# Altium integrated library Texas Instruments Power Management PWM Controller.IntLib: 1227 symbols (part 44 of 49)
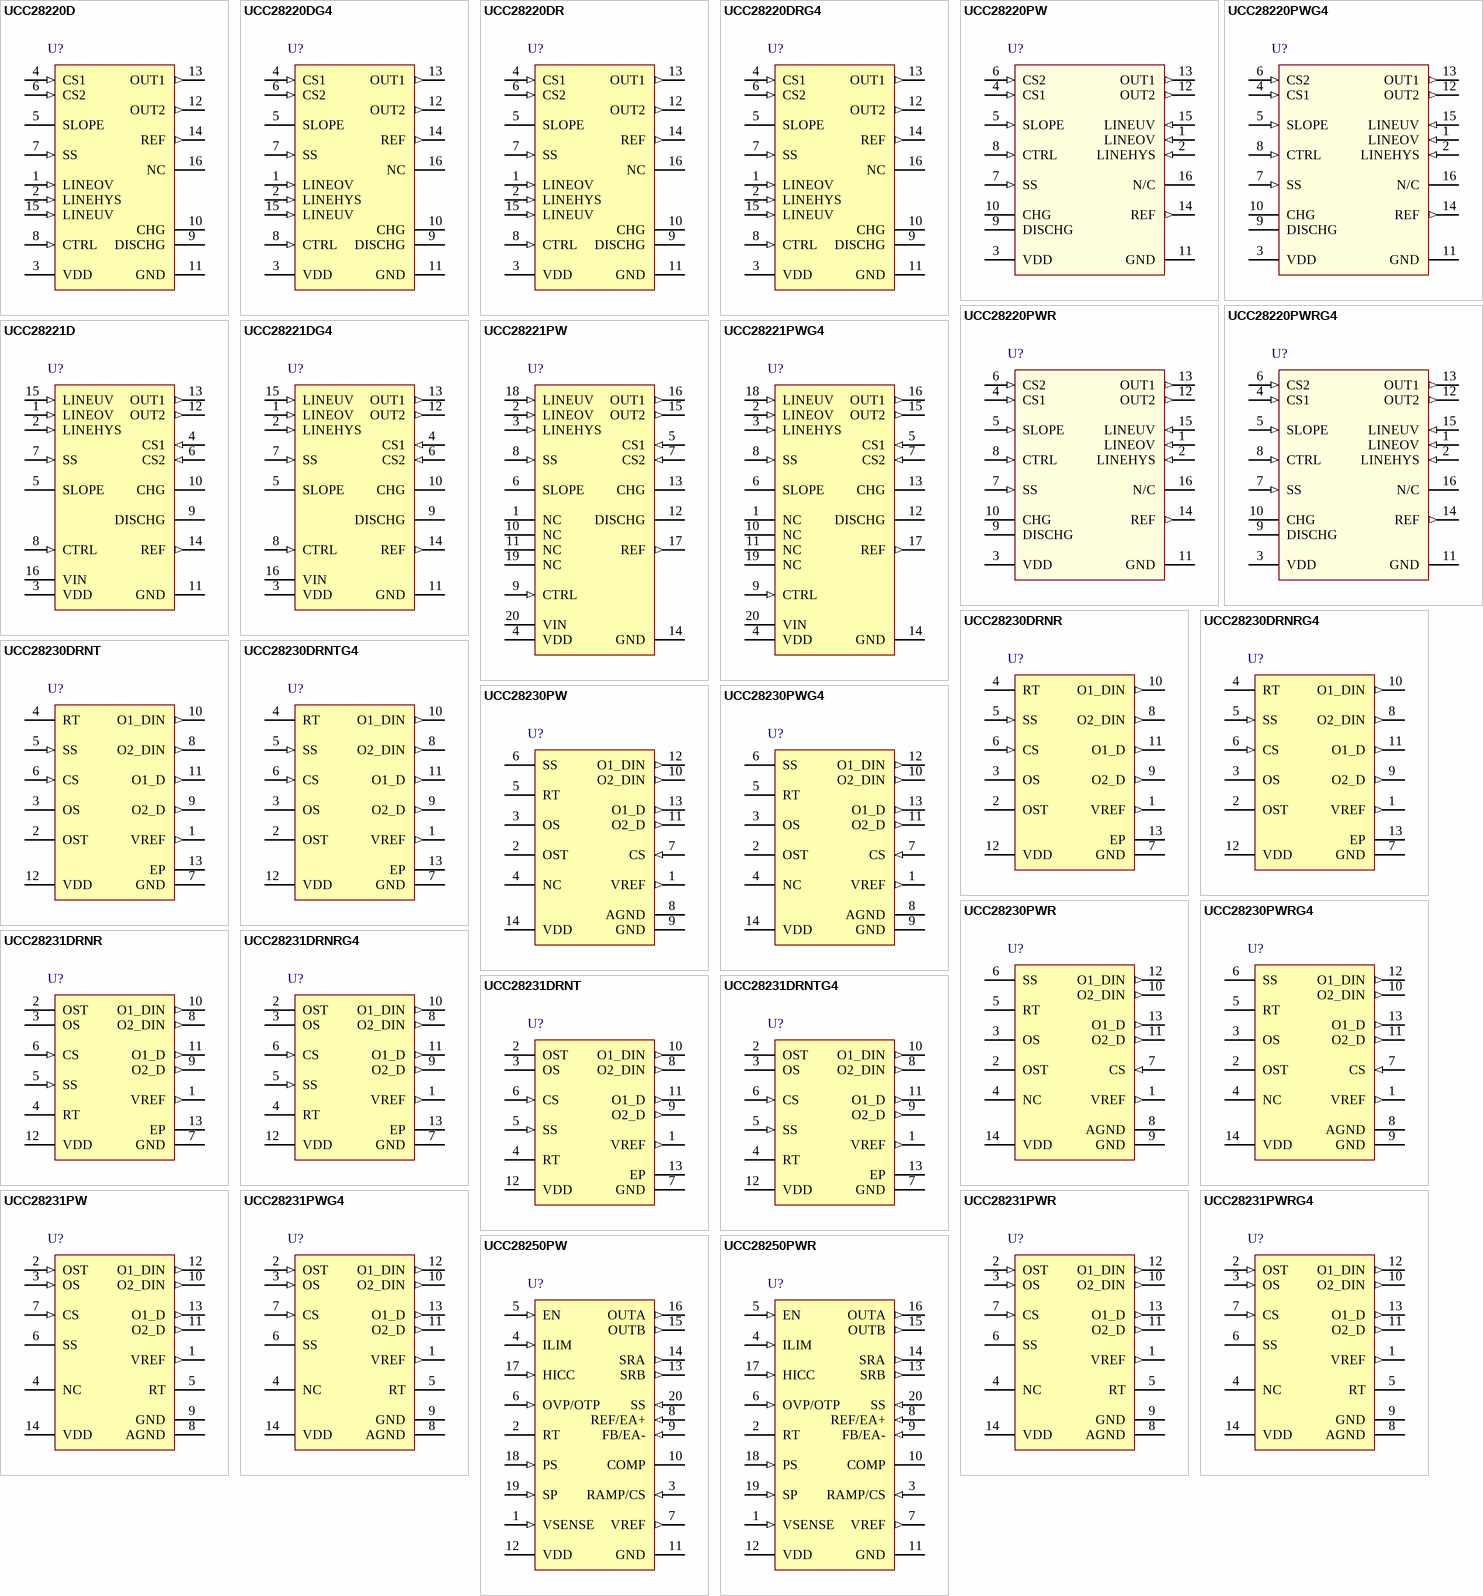
[diagram p86: symbols UCC28220D to UCC28250PWR]

## UCC28220PWG4
designator U?
Interleaved Dual PWM Controller with Programmable Max Duty Cycle with Current Control, 90 % Duty Cycle, -40 to +105 degC, 16-pin TSSOP (PW), Green (RoHS & no Sb/Br); PartNumber: UCC28220PWG4; Manufacturer: Texas Instruments; Duty Cycle(Max)(%): 90; Frequency(Max)(kHz): 2000; Input Line Monitor: Y; Rating: Catalog; Regulated Outputs(#): 2; Topology: Flyback, Forward; UVLO Thresholds On/Off(V): 10.0/8.0; DatasheetVersion: SLUS544E; PackageVersion: revG, Feb-2011; PackageReference: PW16; PackageDescription: 16-Pin Plastic Thin Small Outline Package 5 x 4.4 mm Body ,0.65 mm Pitch; Supplier 1: Digi-Key; Supplier Part Number 1: UCC28220PWG4-ND; Supplier 2: Newark; Supplier Part Number 2: 20M5929; Supplier 3: Mouser; Supplier Part Number 3: 595-UCC28220PWG4; Control Method: Current; Eco-Plan: Green (RoHS & no Sb/Br); SubFamily: PWM Controller; Mounting Technology: Surface Mount; Code_JEDEC: MO-153; ComponentLink1Description: Datasheet; ComponentLink1URL: http://www.ti.com/general/docs/lit/getliterature.tsp?genericPartNumber=UCC28220&fileType=pdf
footprint PW16_N (TSOP, 16-Leads, Body 5x4.4mm, Pitch 0.65mm, IPC Medium Density)
footprint PW16_L (TSOP, 16-Leads, Body 5x4.4mm, Pitch 0.65mm, IPC High Density)
footprint PW16_M (TSOP, 16-Leads, Body 5x4.4mm, Pitch 0.65mm, IPC Low Density)
pins: 1 LINEOV (in) "Input for line over voltage comparator", 2 LINEHYS (in) "Sets line comparator hysteresis", 3 VDD (power) "Device supply input", 4 CS1 (in) "Channel 1 current sense input", 5 SLOPE (in) "Sets slope compensation", 6 CS2 (in) "Channel 2 current sense input", 7 SS (in) "Soft-start input", 8 CTRL (in) "Feedback control input", 9 DISCHG "Sets oscillator discharge current", 10 CHG "Sets oscillator charge current", 11 GND (power) "Device ground", 12 OUT2 (out) "PWM output from channel 2", 13 OUT1 (out) "PWM output from channel 1", 14 REF (out) "Reference voltage output", 15 LINEUV (in) "Input for line under voltage comparator", 16 N/C "No connection"

## UCC28220PWR
designator U?
Interleaved Dual PWM Controller with Programmable Max Duty Cycle with Current Control, 90 % Duty Cycle, -40 to +105 degC, 16-pin TSSOP (PW), Green (RoHS & no Sb/Br); PartNumber: UCC28220PWR; Manufacturer: Texas Instruments; Duty Cycle(Max)(%): 90; Frequency(Max)(kHz): 2000; Rating: Catalog; Regulated Outputs(#): 2; Topology: Flyback, Forward; UVLO Thresholds On/Off(V): 10.0/8.0; DatasheetVersion: SLUS544E; PackageVersion: revG, Feb-2011; PackageReference: PW16; PackageDescription: 16-Pin Plastic Thin Small Outline Package 5 x 4.4 mm Body ,0.65 mm Pitch; Supplier 1: Digi-Key; Supplier Part Number 1: UCC28220PWR-ND; Supplier 2: Newark; Supplier Part Number 2: 87H4691; Supplier 3: Mouser; Supplier Part Number 3: 595-UCC28220PWR; Control Method: Current; Eco-Plan: Green (RoHS & no Sb/Br); SubFamily: PWM Controller; Mounting Technology: Surface Mount; Code_JEDEC: MO-153; ComponentLink1Description: Datasheet; ComponentLink1URL: http://www.ti.com/general/docs/lit/getliterature.tsp?genericPartNumber=UCC28220&fileType=pdf
footprint PW16_N (TSOP, 16-Leads, Body 5x4.4mm, Pitch 0.65mm, IPC Medium Density)
footprint PW16_L (TSOP, 16-Leads, Body 5x4.4mm, Pitch 0.65mm, IPC High Density)
footprint PW16_M (TSOP, 16-Leads, Body 5x4.4mm, Pitch 0.65mm, IPC Low Density)
pins: 1 LINEOV (in) "Input for line over voltage comparator", 2 LINEHYS (in) "Sets line comparator hysteresis", 3 VDD (power) "Device supply input", 4 CS1 (in) "Channel 1 current sense input", 5 SLOPE (in) "Sets slope compensation", 6 CS2 (in) "Channel 2 current sense input", 7 SS (in) "Soft-start input", 8 CTRL (in) "Feedback control input", 9 DISCHG "Sets oscillator discharge current", 10 CHG "Sets oscillator charge current", 11 GND (power) "Device ground", 12 OUT2 (out) "PWM output from channel 2", 13 OUT1 (out) "PWM output from channel 1", 14 REF (out) "Reference voltage output", 15 LINEUV (in) "Input for line under voltage comparator", 16 N/C "No connection"

## UCC28220PWRG4
designator U?
Interleaved Dual PWM Controller with Programmable Max Duty Cycle with Current Control, 90 % Duty Cycle, -40 to +105 degC, 16-pin TSSOP (PW), Green (RoHS & no Sb/Br); PartNumber: UCC28220PWRG4; Manufacturer: Texas Instruments; Duty Cycle(Max)(%): 90; Frequency(Max)(kHz): 2000; Rating: Catalog; Regulated Outputs(#): 2; Topology: Flyback, Forward; UVLO Thresholds On/Off(V): 10.0/8.0; DatasheetVersion: SLUS544E; PackageVersion: revG, Feb-2011; PackageReference: PW16; PackageDescription: 16-Pin Plastic Thin Small Outline Package 5 x 4.4 mm Body ,0.65 mm Pitch; Supplier 1: Digi-Key; Supplier Part Number 1: UCC28220PWRG4-ND; Supplier 2: Newark; Supplier Part Number 2: 54K2034; Supplier 3: Mouser; Supplier Part Number 3: 595-UCC28220PWRG4; Control Method: Current; Eco-Plan: Green (RoHS & no Sb/Br); SubFamily: PWM Controller; Mounting Technology: Surface Mount; Code_JEDEC: MO-153; ComponentLink1Description: Datasheet; ComponentLink1URL: http://www.ti.com/general/docs/lit/getliterature.tsp?genericPartNumber=UCC28220&fileType=pdf
footprint PW16_N (TSOP, 16-Leads, Body 5x4.4mm, Pitch 0.65mm, IPC Medium Density)
footprint PW16_L (TSOP, 16-Leads, Body 5x4.4mm, Pitch 0.65mm, IPC High Density)
footprint PW16_M (TSOP, 16-Leads, Body 5x4.4mm, Pitch 0.65mm, IPC Low Density)
pins: 1 LINEOV (in) "Input for line over voltage comparator", 2 LINEHYS (in) "Sets line comparator hysteresis", 3 VDD (power) "Device supply input", 4 CS1 (in) "Channel 1 current sense input", 5 SLOPE (in) "Sets slope compensation", 6 CS2 (in) "Channel 2 current sense input", 7 SS (in) "Soft-start input", 8 CTRL (in) "Feedback control input", 9 DISCHG "Sets oscillator discharge current", 10 CHG "Sets oscillator charge current", 11 GND (power) "Device ground", 12 OUT2 (out) "PWM output from channel 2", 13 OUT1 (out) "PWM output from channel 1", 14 REF (out) "Reference voltage output", 15 LINEUV (in) "Input for line under voltage comparator", 16 N/C "No connection"

## UCC28221D
designator U?
Interleaved Dual PWM Controller with Programmable Max Duty Cycle with Current Control, 90 % Duty Cycle, -40 to +105 degC, 16-pin SOIC (D), Green (RoHS & no Sb/Br); PartNumber: UCC28221D; Manufacturer: Texas Instruments; Duty Cycle(Max)(%): 90; Frequency(Max)(kHz): 2000; Rating: Catalog; Regulated Outputs(#): 2; Topology: Flyback, Forward; UVLO Thresholds On/Off(V): 13.0/8.0; DatasheetVersion: SLUS544E; PackageVersion: revM, Jun-2011; PackageReference: D16; PackageDescription: 16-Pin Plastic Small Outline Integrated Circuit, 9.9 x 3.9 mm, Pitch 1.27 mm Pitch; Supplier 1: Digi-Key; Supplier Part Number 1: 296-15757-5-ND; Supplier 2: Farnell; Supplier Part Number 2: 8462909; Supplier 3: Newark; Supplier Part Number 3: 83H4679; Supplier 4: Mouser; Supplier Part Number 4: 595-UCC28221D; Control Method: Current; Eco-Plan: Green (RoHS & no Sb/Br); SubFamily: PWM Controller; Mounting Technology: Surface Mount; Code_JEDEC: MS-012AC; ComponentLink1Description: Datasheet; ComponentLink1URL: http://www.ti.com/general/docs/lit/getliterature.tsp?genericPartNumber=UCC28221&fileType=pdf
footprint D16_N (SOIC, 16-Leads, Body 9.9x3.9mm, Pitch 1.27mm, IPC Medium Density)
footprint D16_L (SOIC, 16-Leads, Body 9.9x3.9mm, Pitch 1.27mm, IPC High Density)
footprint D16_M (SOIC, 16-Leads, Body 9.9x3.9mm, Pitch 1.27mm, IPC Low Density)
pins: 1 LINEOV (in) "This pin is connected to a comparator and used to monitor the line voltage for an over voltage condition. The typical threshold is 1.26 V.", 2 LINEHYS (in) "This pin is controlled by both the LINEOV and LINEUV pins. It is used to control the hysteresis values for both the over and under voltage line detectors.", 3 VDD (power) "This is used to supply power to the device, monitoring this pin is a the UVLO circuit. This is used to insure glitch-free startup operation. Until VDD reaches its UVLO threshold, it remains in a low power mode, drawing (See Datasheet)", 4 CS1 (in) "The pin are the current sense inputs to the device. The signals are internally level shifted by 0.5 V before the signal gets to the PWM comparator. Internally the slope compensation ramp is added to this signal. The linear (See Datasheet)", 5 SLOPE "This pin sets up a current used for the slope compensation ramp. A resistor to ground sets up a current, which is internally divided by 25 and then applied to an internal 10-pF capacitor. Under normal operation th dc voltage (See Datasheet)", 6 CS2 (in) "The pin are the current sense inputs to the device. The signals are internally level shifted by 0.5 V before the signal gets to the PWM comparator. Internally the slope compensation ramp is added to this signal. The linear (See Datasheet)", 7 SS (in) "Soft-start input", 8 CTRL (in) "Feedback control input", 9 DISCHG "A resistor from this pin to GND sets up the discharge current of the internal CT capacitor used in the oscillator. This resistor, in conjunction with the resistor on the CHG pin is used to set up the operating frequency and (See Datasheet)", 10 CHG "A resistor from this pin to GND sets up the charging current of the internal CT capacitor used in the oscillator. This resistor, in conjunction with the resistor on the DISCHG pin is used to set up the operating frequency (See Datasheet)", 11 GND (power) "Device ground", 12 OUT2 (out) "The output buffers are intended to interface with high current MOSFET drivers. The output drive capability is approximately 33 mA and has an output impedance of 100 ohm. The output swing between GND and REF.", 13 OUT1 (out) "The output buffers are intended to interface with high current MOSFET drivers. The output drive capability is approximately 33 mA and has an output impedance of 100 ohm. The output swing between GND and REF.", 14 REF (out) "REF is a 3.3-V output used primarily as a source for the output buffers and other internal circuits. It is protected from accidental shorts to ground. For improved noise immunity it is recommended that the reference pin be (See Datasheet)", 15 LINEUV (in) "This pin is connected to a comparator and used to monitor the line voltage for an under voltage condition. The typical threshold is 1.26 V.", 16 VIN (power) "This pin has an internal high voltage JFET used for startup. The drain is connected to VIN, while its?source is connected to VDD. During startup, this JFET delivers 12 mA typically with a minimum of 4 mA to VDD, which in (See Datasheet)"

## UCC28221DG4
designator U?
Interleaved Dual PWM Controller with Programmable Max Duty Cycle with Current Control, 90 % Duty Cycle, -40 to +105 degC, 16-pin SOIC (D), Green (RoHS & no Sb/Br); PartNumber: UCC28221DG4; Manufacturer: Texas Instruments; Duty Cycle(Max)(%): 90; Frequency(Max)(kHz): 2000; Rating: Catalog; Regulated Outputs(#): 2; Topology: Flyback, Forward; UVLO Thresholds On/Off(V): 13.0/8.0; DatasheetVersion: SLUS544E; PackageVersion: revM, Jun-2011; PackageReference: D16; PackageDescription: 16-Pin Plastic Small Outline Integrated Circuit, 9.9 x 3.9 mm, Pitch 1.27 mm Pitch; Supplier 1: Digi-Key; Supplier Part Number 1: UCC28221DG4-ND; Supplier 2: Newark; Supplier Part Number 2: 95M0204; Supplier 3: Mouser; Supplier Part Number 3: 595-UCC28221DG4; Control Method: Current; Eco-Plan: Green (RoHS & no Sb/Br); SubFamily: PWM Controller; Mounting Technology: Surface Mount; Code_JEDEC: MS-012AC; ComponentLink1Description: Datasheet; ComponentLink1URL: http://www.ti.com/general/docs/lit/getliterature.tsp?genericPartNumber=UCC28221&fileType=pdf
footprint D16_N (SOIC, 16-Leads, Body 9.9x3.9mm, Pitch 1.27mm, IPC Medium Density)
footprint D16_L (SOIC, 16-Leads, Body 9.9x3.9mm, Pitch 1.27mm, IPC High Density)
footprint D16_M (SOIC, 16-Leads, Body 9.9x3.9mm, Pitch 1.27mm, IPC Low Density)
pins: 1 LINEOV (in) "This pin is connected to a comparator and used to monitor the line voltage for an over voltage condition. The typical threshold is 1.26 V.", 2 LINEHYS (in) "This pin is controlled by both the LINEOV and LINEUV pins. It is used to control the hysteresis values for both the over and under voltage line detectors.", 3 VDD (power) "This is used to supply power to the device, monitoring this pin is a the UVLO circuit. This is used to insure glitch-free startup operation. Until VDD reaches its UVLO threshold, it remains in a low power mode, drawing (See Datasheet)", 4 CS1 (in) "The pin are the current sense inputs to the device. The signals are internally level shifted by 0.5 V before the signal gets to the PWM comparator. Internally the slope compensation ramp is added to this signal. The linear (See Datasheet)", 5 SLOPE "This pin sets up a current used for the slope compensation ramp. A resistor to ground sets up a current, which is internally divided by 25 and then applied to an internal 10-pF capacitor. Under normal operation th dc voltage (See Datasheet)", 6 CS2 (in) "The pin are the current sense inputs to the device. The signals are internally level shifted by 0.5 V before the signal gets to the PWM comparator. Internally the slope compensation ramp is added to this signal. The linear (See Datasheet)", 7 SS (in) "Soft-start input", 8 CTRL (in) "Feedback control input", 9 DISCHG "A resistor from this pin to GND sets up the discharge current of the internal CT capacitor used in the oscillator. This resistor, in conjunction with the resistor on the CHG pin is used to set up the operating frequency and (See Datasheet)", 10 CHG "A resistor from this pin to GND sets up the charging current of the internal CT capacitor used in the oscillator. This resistor, in conjunction with the resistor on the DISCHG pin is used to set up the operating frequency (See Datasheet)", 11 GND (power) "Device ground", 12 OUT2 (out) "The output buffers are intended to interface with high current MOSFET drivers. The output drive capability is approximately 33 mA and has an output impedance of 100 ohm. The output swing between GND and REF.", 13 OUT1 (out) "The output buffers are intended to interface with high current MOSFET drivers. The output drive capability is approximately 33 mA and has an output impedance of 100 ohm. The output swing between GND and REF.", 14 REF (out) "REF is a 3.3-V output used primarily as a source for the output buffers and other internal circuits. It is protected from accidental shorts to ground. For improved noise immunity it is recommended that the reference pin be (See Datasheet)", 15 LINEUV (in) "This pin is connected to a comparator and used to monitor the line voltage for an under voltage condition. The typical threshold is 1.26 V.", 16 VIN (power) "This pin has an internal high voltage JFET used for startup. The drain is connected to VIN, while its?source is connected to VDD. During startup, this JFET delivers 12 mA typically with a minimum of 4 mA to VDD, which in (See Datasheet)"

## UCC28221PW
designator U?
Interleaved Dual PWM Controller with Programmable Max Duty Cycle with Current Control, 90 % Duty Cycle, -40 to +105 degC, 20-pin TSSOP (PW), Green (RoHS & no Sb/Br); PartNumber: UCC28221PW; Manufacturer: Texas Instruments; Duty Cycle(Max)(%): 90; Frequency(Max)(kHz): 2000; Rating: Catalog; Regulated Outputs(#): 2; Topology: Flyback, Forward; UVLO Thresholds On/Off(V): 13.0/8.0; DatasheetVersion: SLUS544E; PackageVersion: revG, Feb-2011; PackageReference: PW20; PackageDescription: 20-Pin Plastic Thin Small Outline Package 6.5 x 4.4 mm Body ,0.65 mm Pitch; Supplier 1: Digi-Key; Supplier Part Number 1: 296-15758-5-ND; Supplier 2: Newark; Supplier Part Number 2: 87H4693; Supplier 3: Mouser; Supplier Part Number 3: 595-UCC28221PW; Control Method: Current; Eco-Plan: Green (RoHS & no Sb/Br); SubFamily: PWM Controller; Mounting Technology: Surface Mount; Code_JEDEC: MO-153; ComponentLink1Description: Datasheet; ComponentLink1URL: http://www.ti.com/general/docs/lit/getliterature.tsp?genericPartNumber=UCC28221&fileType=pdf
footprint PW20_N (TSOP, 20-Leads, Body 6.5x4.4mm, Pitch 0.65mm, IPC Medium Density)
footprint PW20_L (TSOP, 20-Leads, Body 6.5x4.4mm, Pitch 0.65mm, IPC High Density)
footprint PW20_M (TSOP, 20-Leads, Body 6.5x4.4mm, Pitch 0.65mm, IPC Low Density)
pins: 1 NC "No connection", 2 LINEOV (in) "Input for line over voltage comparator", 3 LINEHYS (in) "Sets line comparator hysteresis", 4 VDD (power) "Device supply input", 5 CS1 (in) "Channel 1 current sense input", 6 SLOPE "Sets slope compensation", 7 CS2 (in) "Channel 2 current sense input", 8 SS (in) "Soft-start input", 9 CTRL (in) "Feedback control input", 10 NC "No connection", 11 NC "No connection", 12 DISCHG "Sets oscillator discharge current", 13 CHG "Sets oscillator charge current", 14 GND (power) "Device ground", 15 OUT2 (out) "PWM output from channel 2", 16 OUT1 (out) "PWM output from channel 1", 17 REF (out) "Reference voltage output", 18 LINEUV (in) "Input for line under voltage comparator", 19 NC "No connection", 20 VIN (power) "High voltage start-up input"

## UCC28221PWG4
designator U?
Interleaved Dual PWM Controller with Programmable Max Duty Cycle with Current Control, 90 % Duty Cycle, -40 to +105 degC, 20-pin TSSOP (PW), Green (RoHS & no Sb/Br); PartNumber: UCC28221PWG4; Manufacturer: Texas Instruments; Duty Cycle(Max)(%): 90; Frequency(Max)(kHz): 2000; Rating: Catalog; Regulated Outputs(#): 2; Topology: Flyback, Forward; UVLO Thresholds On/Off(V): 13.0/8.0; DatasheetVersion: SLUS544E; PackageVersion: revG, Feb-2011; PackageReference: PW20; PackageDescription: 20-Pin Plastic Thin Small Outline Package 6.5 x 4.4 mm Body ,0.65 mm Pitch; Supplier 1: Digi-Key; Supplier Part Number 1: UCC28221PWG4-ND; Supplier 2: Newark; Supplier Part Number 2: 73K9669; Supplier 3: Mouser; Supplier Part Number 3: 595-UCC28221PWG4; Control Method: Current; Eco-Plan: Green (RoHS & no Sb/Br); SubFamily: PWM Controller; Mounting Technology: Surface Mount; Code_JEDEC: MO-153; ComponentLink1Description: Datasheet; ComponentLink1URL: http://www.ti.com/general/docs/lit/getliterature.tsp?genericPartNumber=UCC28221&fileType=pdf
footprint PW20_N (TSOP, 20-Leads, Body 6.5x4.4mm, Pitch 0.65mm, IPC Medium Density)
footprint PW20_L (TSOP, 20-Leads, Body 6.5x4.4mm, Pitch 0.65mm, IPC High Density)
footprint PW20_M (TSOP, 20-Leads, Body 6.5x4.4mm, Pitch 0.65mm, IPC Low Density)
pins: 1 NC "No connection", 2 LINEOV (in) "Input for line over voltage comparator", 3 LINEHYS (in) "Sets line comparator hysteresis", 4 VDD (power) "Device supply input", 5 CS1 (in) "Channel 1 current sense input", 6 SLOPE "Sets slope compensation", 7 CS2 (in) "Channel 2 current sense input", 8 SS (in) "Soft-start input", 9 CTRL (in) "Feedback control input", 10 NC "No connection", 11 NC "No connection", 12 DISCHG "Sets oscillator discharge current", 13 CHG "Sets oscillator charge current", 14 GND (power) "Device ground", 15 OUT2 (out) "PWM output from channel 2", 16 OUT1 (out) "PWM output from channel 1", 17 REF (out) "Reference voltage output", 18 LINEUV (in) "Input for line under voltage comparator", 19 NC "No connection", 20 VIN (power) "High voltage start-up input"

## UCC28230DRNR
designator U?
Advanced PWM Controller for Bus Converter with Voltage Control, 100 % Duty Cycle, -55 to +125 degC, 12-pin USON (DRN), Green (RoHS & no Sb/Br); PartNumber: UCC28230DRNR; Manufacturer: Texas Instruments; Duty Cycle(Max)(%): 100; Frequency(Max)(kHz): 1000; Rating: Catalog; Regulated Outputs(#): 1; Topology: Push-Pull, Half-Bridge, Full-Bridge; UVLO Thresholds On/Off(V): 6.3/5.7; DatasheetVersion: SLUS814A; PackageVersion: revB, May-2005; PackageReference: DRN12-2300X900TP; PackageDescription: 12-Pin Plastic Small Outline, 2 x 3 x 0.6 mm Body, 0.5 mm Pitch, Exposed Pad; Supplier 1: Digi-Key; Supplier Part Number 1: UCC28230DRNR-ND; Supplier 2: Newark; Supplier Part Number 2: 03P5340; Supplier 3: Mouser; Supplier Part Number 3: 595-UCC28230DRNR; Control Method: Voltage; Eco-Plan: Green (RoHS & no Sb/Br); SubFamily: PWM Controller; Mounting Technology: Surface Mount; Code_JEDEC: MO-229; ComponentLink1Description: Datasheet; ComponentLink1URL: http://www.ti.com/general/docs/lit/getliterature.tsp?genericPartNumber=UCC28230&fileType=pdf
footprint DRN12-2300X900TP (SON, 12-Leads, Body 2x3mm, Pitch 0.5mm, Thermal Pad 0.9x2.3mm, TI Recommended)
pins: 1 VREF (out) "+/-1.5% accurate 5 V for UCC28230, 10-mA output reference voltage with short circuit protection that can be used for fixed switching frequency setting and/or for housekeeping microcontroller. Place decoupling capacitor in (See Datasheet)", 2 OST "Off time control threshold pin uses a resistor divider to set current level as percentage of current limit threshold.", 3 OS "Nominal off time TOFF and dead time TDT set pin. An external resistor connected between this pin and GND sets the dead time and nominal off time.", 4 RT "Oscillator timing input pin. The external resistor which is connected between this pin and VIN sets the oscillator frequency which varies with VIN. Tying the external resistor to VREF sets fixed frequency operation (See Datasheet)", 5 SS (in) "Input to adjustable soft-start,and hiccup mode circuit. Place soft-start capacitor from this pin to GND. The internal charge/discharge current ISS and an external capacitor value set the soft-start timing, duration of (See Datasheet)", 6 CS (in) "Current sensing pin used for cycle-by-cycle current limit, short circuit protection and off time control.", 7 GND (power) "Ground pin connected to thermal pad. All signals are referenced to this node.", 8 O2_DIN (out) "0.2-A sink/source switching output pin to an external driver providing 1-D pulse.", 9 O2_D (out) "0.2-A sink/source switching output pin to an external driver providing D pulse.", 10 O1_DIN (out) "0.2-A sink/source switching output pin to an external driver providing 1-D pulse.", 11 O1_D (out) "0.2-A sink/source switching output pin to an external driver providing D pulse.", 12 VDD (power) "Connect this pin to a 7-V to 17-V V bias supply. Place a high quality at least 1-uF ceramic bypass capacitor from this ping to GND.", 13 EP (power) "Exposed Pad."

## UCC28230DRNRG4
designator U?
Advanced PWM Controller for Bus Converter with Voltage Control, 100 % Duty Cycle, -55 to +125 degC, 12-pin USON (DRN), Green (RoHS & no Sb/Br); PartNumber: UCC28230DRNRG4; Manufacturer: Texas Instruments; Duty Cycle(Max)(%): 100; Frequency(Max)(kHz): 1000; Rating: Catalog; Regulated Outputs(#): 1; Topology: Push-Pull, Half-Bridge, Full-Bridge; UVLO Thresholds On/Off(V): 6.3/5.7; DatasheetVersion: SLUS814A; PackageVersion: revB, May-2005; PackageReference: DRN12-2300X900TP; PackageDescription: 12-Pin Plastic Small Outline, 2 x 3 x 0.6 mm Body, 0.5 mm Pitch, Exposed Pad; Supplier 1: Digi-Key; Supplier Part Number 1: UCC28230DRNRG4-ND; Supplier 2: Mouser; Supplier Part Number 2: 595-UCC28230DRNRG4; Control Method: Voltage; Eco-Plan: Green (RoHS & no Sb/Br); SubFamily: PWM Controller; Mounting Technology: Surface Mount; Code_JEDEC: MO-229; ComponentLink1Description: Datasheet; ComponentLink1URL: http://www.ti.com/general/docs/lit/getliterature.tsp?genericPartNumber=UCC28230&fileType=pdf
footprint DRN12-2300X900TP (SON, 12-Leads, Body 2x3mm, Pitch 0.5mm, Thermal Pad 0.9x2.3mm, TI Recommended)
pins: 1 VREF (out) "+/-1.5% accurate 5 V for UCC28230, 10-mA output reference voltage with short circuit protection that can be used for fixed switching frequency setting and/or for housekeeping microcontroller. Place decoupling capacitor in (See Datasheet)", 2 OST "Off time control threshold pin uses a resistor divider to set current level as percentage of current limit threshold.", 3 OS "Nominal off time TOFF and dead time TDT set pin. An external resistor connected between this pin and GND sets the dead time and nominal off time.", 4 RT "Oscillator timing input pin. The external resistor which is connected between this pin and VIN sets the oscillator frequency which varies with VIN. Tying the external resistor to VREF sets fixed frequency operation (See Datasheet)", 5 SS (in) "Input to adjustable soft-start,and hiccup mode circuit. Place soft-start capacitor from this pin to GND. The internal charge/discharge current ISS and an external capacitor value set the soft-start timing, duration of (See Datasheet)", 6 CS (in) "Current sensing pin used for cycle-by-cycle current limit, short circuit protection and off time control.", 7 GND (power) "Ground pin connected to thermal pad. All signals are referenced to this node.", 8 O2_DIN (out) "0.2-A sink/source switching output pin to an external driver providing 1-D pulse.", 9 O2_D (out) "0.2-A sink/source switching output pin to an external driver providing D pulse.", 10 O1_DIN (out) "0.2-A sink/source switching output pin to an external driver providing 1-D pulse.", 11 O1_D (out) "0.2-A sink/source switching output pin to an external driver providing D pulse.", 12 VDD (power) "Connect this pin to a 7-V to 17-V V bias supply. Place a high quality at least 1-uF ceramic bypass capacitor from this ping to GND.", 13 EP (power) "Exposed Pad."

## UCC28230DRNT
designator U?
Advanced PWM Controller for Bus Converter with Voltage Control, 100 % Duty Cycle, -55 to +125 degC, 12-pin USON (DRN), Green (RoHS & no Sb/Br); PartNumber: UCC28230DRNT; Manufacturer: Texas Instruments; Duty Cycle(Max)(%): 100; Frequency(Max)(kHz): 1000; Rating: Catalog; Regulated Outputs(#): 1; Topology: Push-Pull, Half-Bridge, Full-Bridge; UVLO Thresholds On/Off(V): 6.3/5.7; DatasheetVersion: SLUS814A; PackageVersion: revB, May-2005; PackageReference: DRN12-2300X900TP; PackageDescription: 12-Pin Plastic Small Outline, 2 x 3 x 0.6 mm Body, 0.5 mm Pitch, Exposed Pad; Supplier 1: Digi-Key; Supplier Part Number 1: 296-23560-2-ND; Supplier 2: Digi-Key; Supplier Part Number 2: 296-23560-1-ND; Supplier 3: Digi-Key; Supplier Part Number 3: 296-23560-6-ND; Supplier 4: Newark; Supplier Part Number 4: 15N0087; Supplier 5: Mouser; Supplier Part Number 5: 595-UCC28230DRNT; Control Method: Voltage; Eco-Plan: Green (RoHS & no Sb/Br); SubFamily: PWM Controller; Mounting Technology: Surface Mount; Code_JEDEC: MO-229; ComponentLink1Description: Datasheet; ComponentLink1URL: http://www.ti.com/general/docs/lit/getliterature.tsp?genericPartNumber=UCC28230&fileType=pdf
footprint DRN12-2300X900TP (SON, 12-Leads, Body 2x3mm, Pitch 0.5mm, Thermal Pad 0.9x2.3mm, TI Recommended)
pins: 1 VREF (out) "+/-1.5% accurate 5 V for UCC28230, 10-mA output reference voltage with short circuit protection that can be used for fixed switching frequency setting and/or for housekeeping microcontroller. Place decoupling capacitor in (See Datasheet)", 2 OST "Off time control threshold pin uses a resistor divider to set current level as percentage of current limit threshold.", 3 OS "Nominal off time TOFF and dead time TDT set pin. An external resistor connected between this pin and GND sets the dead time and nominal off time.", 4 RT "Oscillator timing input pin. The external resistor which is connected between this pin and VIN sets the oscillator frequency which varies with VIN. Tying the external resistor to VREF sets fixed frequency operation (See Datasheet)", 5 SS (in) "Input to adjustable soft-start,and hiccup mode circuit. Place soft-start capacitor from this pin to GND. The internal charge/discharge current ISS and an external capacitor value set the soft-start timing, duration of (See Datasheet)", 6 CS (in) "Current sensing pin used for cycle-by-cycle current limit, short circuit protection and off time control.", 7 GND (power) "Ground pin connected to thermal pad. All signals are referenced to this node.", 8 O2_DIN (out) "0.2-A sink/source switching output pin to an external driver providing 1-D pulse.", 9 O2_D (out) "0.2-A sink/source switching output pin to an external driver providing D pulse.", 10 O1_DIN (out) "0.2-A sink/source switching output pin to an external driver providing 1-D pulse.", 11 O1_D (out) "0.2-A sink/source switching output pin to an external driver providing D pulse.", 12 VDD (power) "Connect this pin to a 7-V to 17-V V bias supply. Place a high quality at least 1-uF ceramic bypass capacitor from this ping to GND.", 13 EP (power) "Exposed Pad."

## UCC28230DRNTG4
designator U?
Advanced PWM Controller for Bus Converter with Voltage Control, 100 % Duty Cycle, -55 to +125 degC, 12-pin USON (DRN), Green (RoHS & no Sb/Br); PartNumber: UCC28230DRNTG4; Manufacturer: Texas Instruments; Duty Cycle(Max)(%): 100; Frequency(Max)(kHz): 1000; Rating: Catalog; Regulated Outputs(#): 1; Topology: Push-Pull, Half-Bridge, Full-Bridge; UVLO Thresholds On/Off(V): 6.3/5.7; DatasheetVersion: SLUS814A; PackageVersion: revB, May-2005; PackageReference: DRN12-2300X900TP; PackageDescription: 12-Pin Plastic Small Outline, 2 x 3 x 0.6 mm Body, 0.5 mm Pitch, Exposed Pad; Supplier 1: Digi-Key; Supplier Part Number 1: UCC28230DRNTG4-ND; Supplier 2: Mouser; Supplier Part Number 2: 595-UCC28230DRNTG4; Control Method: Voltage; Eco-Plan: Green (RoHS & no Sb/Br); SubFamily: PWM Controller; Mounting Technology: Surface Mount; Code_JEDEC: MO-229; ComponentLink1Description: Datasheet; ComponentLink1URL: http://www.ti.com/general/docs/lit/getliterature.tsp?genericPartNumber=UCC28230&fileType=pdf
footprint DRN12-2300X900TP (SON, 12-Leads, Body 2x3mm, Pitch 0.5mm, Thermal Pad 0.9x2.3mm, TI Recommended)
pins: 1 VREF (out) "+/-1.5% accurate 5 V for UCC28230, 10-mA output reference voltage with short circuit protection that can be used for fixed switching frequency setting and/or for housekeeping microcontroller. Place decoupling capacitor in (See Datasheet)", 2 OST "Off time control threshold pin uses a resistor divider to set current level as percentage of current limit threshold.", 3 OS "Nominal off time TOFF and dead time TDT set pin. An external resistor connected between this pin and GND sets the dead time and nominal off time.", 4 RT "Oscillator timing input pin. The external resistor which is connected between this pin and VIN sets the oscillator frequency which varies with VIN. Tying the external resistor to VREF sets fixed frequency operation (See Datasheet)", 5 SS (in) "Input to adjustable soft-start,and hiccup mode circuit. Place soft-start capacitor from this pin to GND. The internal charge/discharge current ISS and an external capacitor value set the soft-start timing, duration of (See Datasheet)", 6 CS (in) "Current sensing pin used for cycle-by-cycle current limit, short circuit protection and off time control.", 7 GND (power) "Ground pin connected to thermal pad. All signals are referenced to this node.", 8 O2_DIN (out) "0.2-A sink/source switching output pin to an external driver providing 1-D pulse.", 9 O2_D (out) "0.2-A sink/source switching output pin to an external driver providing D pulse.", 10 O1_DIN (out) "0.2-A sink/source switching output pin to an external driver providing 1-D pulse.", 11 O1_D (out) "0.2-A sink/source switching output pin to an external driver providing D pulse.", 12 VDD (power) "Connect this pin to a 7-V to 17-V V bias supply. Place a high quality at least 1-uF ceramic bypass capacitor from this ping to GND.", 13 EP (power) "Exposed Pad."

## UCC28230PW
designator U?
Advanced PWM Controller for Bus Converter with Voltage Control, 100 % Duty Cycle, -55 to +125 degC, 14-pin TSSOP (PW), Green (RoHS & no Sb/Br); PartNumber: UCC28230PW; Manufacturer: Texas Instruments; Duty Cycle(Max)(%): 100; Frequency(Max)(kHz): 1000; Rating: Catalog; Regulated Outputs(#): 1; Topology: Push-Pull, Half-Bridge, Full-Bridge; UVLO Thresholds On/Off(V): 6.3/5.7; DatasheetVersion: SLUS814A; PackageVersion: revG, Feb-2011; PackageReference: PW14; PackageDescription: 14-Pin Thin Small Outline Package 0.65 mm Pitch; Supplier 1: Digi-Key; Supplier Part Number 1: UCC28230PW-ND; Supplier 2: Farnell; Supplier Part Number 2: 1755680; Supplier 3: Newark; Supplier Part Number 3: 02P9903; Supplier 4: Mouser; Supplier Part Number 4: 595-UCC28230PW; Control Method: Voltage; Eco-Plan: Green (RoHS & no Sb/Br); SubFamily: PWM Controller; Mounting Technology: Surface Mount; Code_JEDEC: MO-153; ComponentLink1Description: Datasheet; ComponentLink1URL: http://www.ti.com/general/docs/lit/getliterature.tsp?genericPartNumber=UCC28230&fileType=pdf
footprint PW14_N (TSOP, 14-Leads, Body 5x4.4mm, Pitch 0.65mm, IPC Medium Density)
footprint PW14_L (TSOP, 14-Leads, Body 5x4.4mm, Pitch 0.65mm, IPC High Density)
footprint PW14_M (TSOP, 14-Leads, Body 5x4.4mm, Pitch 0.65mm, IPC Low Density)
pins: 1 VREF (out) "+/-1.5% accurate 5 V for UCC28230 , 10-mA output reference voltage with short circuit protection that can be used for fixed switching frequency setting and/or for housekeeping microcontroller. Place decoupling capacitor in 1 (See Datasheet)", 2 OST "Off time control threshold  pin uses a resistor divider to set current level as percentage of current limit threshold.", 3 OS "Nominal off time Toff and dead time Tdt set pin.An external resistor connected between this pin and GND sets the dead time and nominal off time.", 4 NC "Not connected pin, TSSOP-14 only.", 5 RT "Oscillator timing input pin. The external resistor which is connected between this pin and VIN sets the oscillator frequency which varies with VIN. Tying the external resistor to VREF sets fixed frequency operation (See Datasheet)", 6 SS "Input to adjustable soft-start,and hiccup mode circuit. Place soft-start capacitor from this pin to GND. The internal charge/discharge current ISS and an external capacitor value set the soft-start timing, duration of (See Datasheet)", 7 CS (in) "Current sensing pin used for cycle-by-cycle current limit, short circuit protection and off time control.", 8 AGND (power) "Analog ground, TSSOP-14 only.", 9 GND (power) "Ground pin connected to thermal pad. All signals are referenced to this node.", 10 O2_DIN (out) "0.2-A sink/source switching output pin to an external driver providing 1-D pulse.", 11 O2_D (out) "0.2-A sink/source switching output pin to an external driver providing D pulse.", 12 O1_DIN (out) "0.2-A sink/source switching output pin to an external driver providing 1-D pulse.", 13 O1_D (out) "0.2-A sink/source switching output pin to an external driver providing D pulse.", 14 VDD (power) "Connect this pin to a 7-V to 17 bias supply. Place a high quality at least 1-uF ceramic bypass capacitor from this pin to GND"

## UCC28230PWG4
designator U?
Advanced PWM Controller for Bus Converter with Voltage Control, 100 % Duty Cycle, -55 to +125 degC, 14-pin TSSOP (PW), Green (RoHS & no Sb/Br); PartNumber: UCC28230PWG4; Manufacturer: Texas Instruments; Duty Cycle(Max)(%): 100; Frequency(Max)(kHz): 1000; Rating: Catalog; Regulated Outputs(#): 1; Topology: Push-Pull, Half-Bridge, Full-Bridge; UVLO Thresholds On/Off(V): 6.3/5.7; DatasheetVersion: SLUS814A; PackageVersion: revG, Feb-2011; PackageReference: PW14; PackageDescription: 14-Pin Thin Small Outline Package 0.65 mm Pitch; Supplier 1: Digi-Key; Supplier Part Number 1: UCC28230PWG4-ND; Supplier 2: Mouser; Supplier Part Number 2: 595-UCC28230PWG4; Control Method: Voltage; Eco-Plan: Green (RoHS & no Sb/Br); SubFamily: PWM Controller; Mounting Technology: Surface Mount; Code_JEDEC: MO-153; ComponentLink1Description: Datasheet; ComponentLink1URL: http://www.ti.com/general/docs/lit/getliterature.tsp?genericPartNumber=UCC28230&fileType=pdf
footprint PW14_N (TSOP, 14-Leads, Body 5x4.4mm, Pitch 0.65mm, IPC Medium Density)
footprint PW14_L (TSOP, 14-Leads, Body 5x4.4mm, Pitch 0.65mm, IPC High Density)
footprint PW14_M (TSOP, 14-Leads, Body 5x4.4mm, Pitch 0.65mm, IPC Low Density)
pins: 1 VREF (out) "+/-1.5% accurate 5 V for UCC28230 , 10-mA output reference voltage with short circuit protection that can be used for fixed switching frequency setting and/or for housekeeping microcontroller. Place decoupling capacitor in 1 (See Datasheet)", 2 OST "Off time control threshold  pin uses a resistor divider to set current level as percentage of current limit threshold.", 3 OS "Nominal off time Toff and dead time Tdt set pin.An external resistor connected between this pin and GND sets the dead time and nominal off time.", 4 NC "Not connected pin, TSSOP-14 only.", 5 RT "Oscillator timing input pin. The external resistor which is connected between this pin and VIN sets the oscillator frequency which varies with VIN. Tying the external resistor to VREF sets fixed frequency operation (See Datasheet)", 6 SS "Input to adjustable soft-start,and hiccup mode circuit. Place soft-start capacitor from this pin to GND. The internal charge/discharge current ISS and an external capacitor value set the soft-start timing, duration of (See Datasheet)", 7 CS (in) "Current sensing pin used for cycle-by-cycle current limit, short circuit protection and off time control.", 8 AGND (power) "Analog ground, TSSOP-14 only.", 9 GND (power) "Ground pin connected to thermal pad. All signals are referenced to this node.", 10 O2_DIN (out) "0.2-A sink/source switching output pin to an external driver providing 1-D pulse.", 11 O2_D (out) "0.2-A sink/source switching output pin to an external driver providing D pulse.", 12 O1_DIN (out) "0.2-A sink/source switching output pin to an external driver providing 1-D pulse.", 13 O1_D (out) "0.2-A sink/source switching output pin to an external driver providing D pulse.", 14 VDD (power) "Connect this pin to a 7-V to 17 bias supply. Place a high quality at least 1-uF ceramic bypass capacitor from this pin to GND"

## UCC28230PWR
designator U?
Advanced PWM Controller for Bus Converter with Voltage Control, 100 % Duty Cycle, -55 to +125 degC, 14-pin TSSOP (PW), Green (RoHS & no Sb/Br); PartNumber: UCC28230PWR; Manufacturer: Texas Instruments; Duty Cycle(Max)(%): 100; Frequency(Max)(kHz): 1000; Rating: Catalog; Regulated Outputs(#): 1; Topology: Push-Pull, Half-Bridge, Full-Bridge; UVLO Thresholds On/Off(V): 6.3/5.7; DatasheetVersion: SLUS814A; PackageVersion: revG, Feb-2011; PackageReference: PW14; PackageDescription: 14-Pin Thin Small Outline Package 0.65 mm Pitch; Supplier 1: Digi-Key; Supplier Part Number 1: 296-23561-2-ND; Supplier 2: Digi-Key; Supplier Part Number 2: 296-23561-1-ND; Supplier 3: Digi-Key; Supplier Part Number 3: 296-23561-6-ND; Supplier 4: Newark; Supplier Part Number 4: 01P0915; Supplier 5: Mouser; Supplier Part Number 5: 595-UCC28230PWR; Control Method: Voltage; Eco-Plan: Green (RoHS & no Sb/Br); SubFamily: PWM Controller; Mounting Technology: Surface Mount; Code_JEDEC: MO-153; ComponentLink1Description: Datasheet; ComponentLink1URL: http://www.ti.com/general/docs/lit/getliterature.tsp?genericPartNumber=UCC28230&fileType=pdf
footprint PW14_N (TSOP, 14-Leads, Body 5x4.4mm, Pitch 0.65mm, IPC Medium Density)
footprint PW14_L (TSOP, 14-Leads, Body 5x4.4mm, Pitch 0.65mm, IPC High Density)
footprint PW14_M (TSOP, 14-Leads, Body 5x4.4mm, Pitch 0.65mm, IPC Low Density)
pins: 1 VREF (out) "+/-1.5% accurate 5 V for UCC28230 , 10-mA output reference voltage with short circuit protection that can be used for fixed switching frequency setting and/or for housekeeping microcontroller. Place decoupling capacitor in 1 (See Datasheet)", 2 OST "Off time control threshold  pin uses a resistor divider to set current level as percentage of current limit threshold.", 3 OS "Nominal off time Toff and dead time Tdt set pin.An external resistor connected between this pin and GND sets the dead time and nominal off time.", 4 NC "Not connected pin, TSSOP-14 only.", 5 RT "Oscillator timing input pin. The external resistor which is connected between this pin and VIN sets the oscillator frequency which varies with VIN. Tying the external resistor to VREF sets fixed frequency operation (See Datasheet)", 6 SS "Input to adjustable soft-start,and hiccup mode circuit. Place soft-start capacitor from this pin to GND. The internal charge/discharge current ISS and an external capacitor value set the soft-start timing, duration of (See Datasheet)", 7 CS (in) "Current sensing pin used for cycle-by-cycle current limit, short circuit protection and off time control.", 8 AGND (power) "Analog ground, TSSOP-14 only.", 9 GND (power) "Ground pin connected to thermal pad. All signals are referenced to this node.", 10 O2_DIN (out) "0.2-A sink/source switching output pin to an external driver providing 1-D pulse.", 11 O2_D (out) "0.2-A sink/source switching output pin to an external driver providing D pulse.", 12 O1_DIN (out) "0.2-A sink/source switching output pin to an external driver providing 1-D pulse.", 13 O1_D (out) "0.2-A sink/source switching output pin to an external driver providing D pulse.", 14 VDD (power) "Connect this pin to a 7-V to 17 bias supply. Place a high quality at least 1-uF ceramic bypass capacitor from this pin to GND"

## UCC28230PWRG4
designator U?
Advanced PWM Controller for Bus Converter with Voltage Control, 100 % Duty Cycle, -55 to +125 degC, 14-pin TSSOP (PW), Green (RoHS & no Sb/Br); PartNumber: UCC28230PWRG4; Manufacturer: Texas Instruments; Duty Cycle(Max)(%): 100; Frequency(Max)(kHz): 1000; Rating: Catalog; Regulated Outputs(#): 1; Topology: Push-Pull, Half-Bridge, Full-Bridge; UVLO Thresholds On/Off(V): 6.3/5.7; DatasheetVersion: SLUS814A; PackageVersion: revG, Feb-2011; PackageReference: PW14; PackageDescription: 14-Pin Thin Small Outline Package 0.65 mm Pitch; Supplier 1: Digi-Key; Supplier Part Number 1: UCC28230PWRG4-ND; Supplier 2: Mouser; Supplier Part Number 2: 595-UCC28230PWRG4; Control Method: Voltage; Eco-Plan: Green (RoHS & no Sb/Br); SubFamily: PWM Controller; Mounting Technology: Surface Mount; Code_JEDEC: MO-153; ComponentLink1Description: Datasheet; ComponentLink1URL: http://www.ti.com/general/docs/lit/getliterature.tsp?genericPartNumber=UCC28230&fileType=pdf; ComponentLink2Description: URL Link1; ComponentLink2URL: Samples URL:http://www.ti.com/lit/ds/symlink/ucc28230.pdf
footprint PW14_N (TSOP, 14-Leads, Body 5x4.4mm, Pitch 0.65mm, IPC Medium Density)
footprint PW14_L (TSOP, 14-Leads, Body 5x4.4mm, Pitch 0.65mm, IPC High Density)
footprint PW14_M (TSOP, 14-Leads, Body 5x4.4mm, Pitch 0.65mm, IPC Low Density)
pins: 1 VREF (out) "+/-1.5% accurate 5 V for UCC28230 , 10-mA output reference voltage with short circuit protection that can be used for fixed switching frequency setting and/or for housekeeping microcontroller. Place decoupling capacitor in 1 (See Datasheet)", 2 OST "Off time control threshold  pin uses a resistor divider to set current level as percentage of current limit threshold.", 3 OS "Nominal off time Toff and dead time Tdt set pin.An external resistor connected between this pin and GND sets the dead time and nominal off time.", 4 NC "Not connected pin, TSSOP-14 only.", 5 RT "Oscillator timing input pin. The external resistor which is connected between this pin and VIN sets the oscillator frequency which varies with VIN. Tying the external resistor to VREF sets fixed frequency operation (See Datasheet)", 6 SS "Input to adjustable soft-start,and hiccup mode circuit. Place soft-start capacitor from this pin to GND. The internal charge/discharge current ISS and an external capacitor value set the soft-start timing, duration of (See Datasheet)", 7 CS (in) "Current sensing pin used for cycle-by-cycle current limit, short circuit protection and off time control.", 8 AGND (power) "Analog ground, TSSOP-14 only.", 9 GND (power) "Ground pin connected to thermal pad. All signals are referenced to this node.", 10 O2_DIN (out) "0.2-A sink/source switching output pin to an external driver providing 1-D pulse.", 11 O2_D (out) "0.2-A sink/source switching output pin to an external driver providing D pulse.", 12 O1_DIN (out) "0.2-A sink/source switching output pin to an external driver providing 1-D pulse.", 13 O1_D (out) "0.2-A sink/source switching output pin to an external driver providing D pulse.", 14 VDD (power) "Connect this pin to a 7-V to 17 bias supply. Place a high quality at least 1-uF ceramic bypass capacitor from this pin to GND"

## UCC28231DRNR
designator U?
Advanced PWM Controller for Bus Converter with Voltage Control, 100 % Duty Cycle, -55 to +125 degC, 12-pin USON (DRN), Green (RoHS & no Sb/Br); PartNumber: UCC28231DRNR; Manufacturer: Texas Instruments; Duty Cycle(Max)(%): 100; Frequency(Max)(kHz): 1000; Rating: Catalog; Regulated Outputs(#): 1; Topology: Push-Pull, Half-Bridge, Full-Bridge; UVLO Thresholds On/Off(V): 6.3/5.7; DatasheetVersion: SLUS814A; PackageVersion: revB, May-2005; PackageReference: DRN12-2300X900TP; PackageDescription: 12-Pin Plastic Small Outline, 2 x 3 x 0.6 mm Body, 0.5 mm Pitch, Exposed Pad; Supplier 1: Digi-Key; Supplier Part Number 1: UCC28231DRNR-ND; Supplier 2: Mouser; Supplier Part Number 2: 595-UCC28231DRNR; Control Method: Voltage; Eco-Plan: Green (RoHS & no Sb/Br); SubFamily: PWM Controller; Mounting Technology: Surface Mount; Code_JEDEC: MO-229; ComponentLink1Description: Datasheet; ComponentLink1URL: http://www.ti.com/general/docs/lit/getliterature.tsp?genericPartNumber=UCC28231&fileType=pdf
footprint DRN12-2300X900TP (SON, 12-Leads, Body 2x3mm, Pitch 0.5mm, Thermal Pad 0.9x2.3mm, TI Recommended)
pins: 1 VREF (out) "+/-1.5% accurate 5 V for UCC28230 and 3.3 V for UCC28231, 10-mA output reference voltage with short circuit protection that can be used for ixed switching frequency setting and/or for housekeeping microcontroller.place (See Datasheet)", 2 OST "Off time control threshold pin uses a resistor divider to set current level as percentage of current limit threshold.", 3 OS "Nominal off time TOFF and dead time TDT set pin.  An external resistor connected between this pin and GND sets the dead time and nominal off time.", 4 RT "Oscillator timing input pin. The external resistor which is connected between this pin and VIN sets the oscillator frequency which varies with VIN. Tying the external resistor to VREF sets fixed frequency operation (See Datasheet)", 5 SS (in) "Input to adjustable soft-start,and hiccup mode circuit. Place soft-start capacitor from this pin to GND. The internal charge/discharge current ISS and an external capacitor value set the soft-start timing, duration of (See Datasheet)", 6 CS (in) "Current sensing pin used for cycle-by-cycle current limit, short circuit protection and off time control.", 7 GND (power) "Ground pin connected to thermal pad. All signals are referenced to this node.", 8 O2_DIN (out) "0.2-A sink/source switching output pin to an external driver providing 1-D pulse.", 9 O2_D (out) "0.2-A sink/source switching output pin to an external driver providing D pulse.", 10 O1_DIN (out) "0.2-A sink/source switching output pin to an external driver providing 1-D pulse.", 11 O1_D (out) "0.2-A sink/source switching output pin to an external driver providing D pulse.", 12 VDD (power) "Connect this pin to a 7-V to 17-V bias supply. Place a high quality at least 1uF ceramic bypass capacitor from this pin to GND", 13 EP (power) "Exposed Thermal Pad"

## UCC28231DRNRG4
designator U?
Advanced PWM Controller for Bus Converter with Voltage Control, 100 % Duty Cycle, -55 to +125 degC, 12-pin USON (DRN), Green (RoHS & no Sb/Br); PartNumber: UCC28231DRNRG4; Manufacturer: Texas Instruments; Duty Cycle(Max)(%): 100; Frequency(Max)(kHz): 1000; Rating: Catalog; Regulated Outputs(#): 1; Topology: Push-Pull, Half-Bridge, Full-Bridge; UVLO Thresholds On/Off(V): 6.3/5.7; DatasheetVersion: SLUS814A; PackageVersion: revB, May-2005; PackageReference: DRN12-2300X900TP; PackageDescription: 12-Pin Plastic Small Outline, 2 x 3 x 0.6 mm Body, 0.5 mm Pitch, Exposed Pad; Supplier 1: Digi-Key; Supplier Part Number 1: UCC28231DRNRG4-ND; Supplier 2: Mouser; Supplier Part Number 2: 595-UCC28231DRNRG4; Control Method: Voltage; Eco-Plan: Green (RoHS & no Sb/Br); SubFamily: PWM Controller; Mounting Technology: Surface Mount; Code_JEDEC: MO-229; ComponentLink1Description: Datasheet; ComponentLink1URL: http://www.ti.com/general/docs/lit/getliterature.tsp?genericPartNumber=UCC28231&fileType=pdf
footprint DRN12-2300X900TP (SON, 12-Leads, Body 2x3mm, Pitch 0.5mm, Thermal Pad 0.9x2.3mm, TI Recommended)
pins: 1 VREF (out) "+/-1.5% accurate 5 V for UCC28230 and 3.3 V for UCC28231, 10-mA output reference voltage with short circuit protection that can be used for ixed switching frequency setting and/or for housekeeping microcontroller.place (See Datasheet)", 2 OST "Off time control threshold pin uses a resistor divider to set current level as percentage of current limit threshold.", 3 OS "Nominal off time TOFF and dead time TDT set pin.  An external resistor connected between this pin and GND sets the dead time and nominal off time.", 4 RT "Oscillator timing input pin. The external resistor which is connected between this pin and VIN sets the oscillator frequency which varies with VIN. Tying the external resistor to VREF sets fixed frequency operation (See Datasheet)", 5 SS (in) "Input to adjustable soft-start,and hiccup mode circuit. Place soft-start capacitor from this pin to GND. The internal charge/discharge current ISS and an external capacitor value set the soft-start timing, duration of (See Datasheet)", 6 CS (in) "Current sensing pin used for cycle-by-cycle current limit, short circuit protection and off time control.", 7 GND (power) "Ground pin connected to thermal pad. All signals are referenced to this node.", 8 O2_DIN (out) "0.2-A sink/source switching output pin to an external driver providing 1-D pulse.", 9 O2_D (out) "0.2-A sink/source switching output pin to an external driver providing D pulse.", 10 O1_DIN (out) "0.2-A sink/source switching output pin to an external driver providing 1-D pulse.", 11 O1_D (out) "0.2-A sink/source switching output pin to an external driver providing D pulse.", 12 VDD (power) "Connect this pin to a 7-V to 17-V bias supply. Place a high quality at least 1uF ceramic bypass capacitor from this pin to GND", 13 EP (power) "Exposed Thermal Pad"